# Altium footprint library LEDs.PcbLib: 46 footprints (part 2 of 3)
Each footprint in its own frame and in the unit in brackets; x right, y up, seen from the top. Pads: shape width x height; smd on the part's side, far side on the other; paste and mask are expansions set on the pad; w line width, h text height; cw(c..) or ccw(c..) is an arc to the next point about the centre after c.
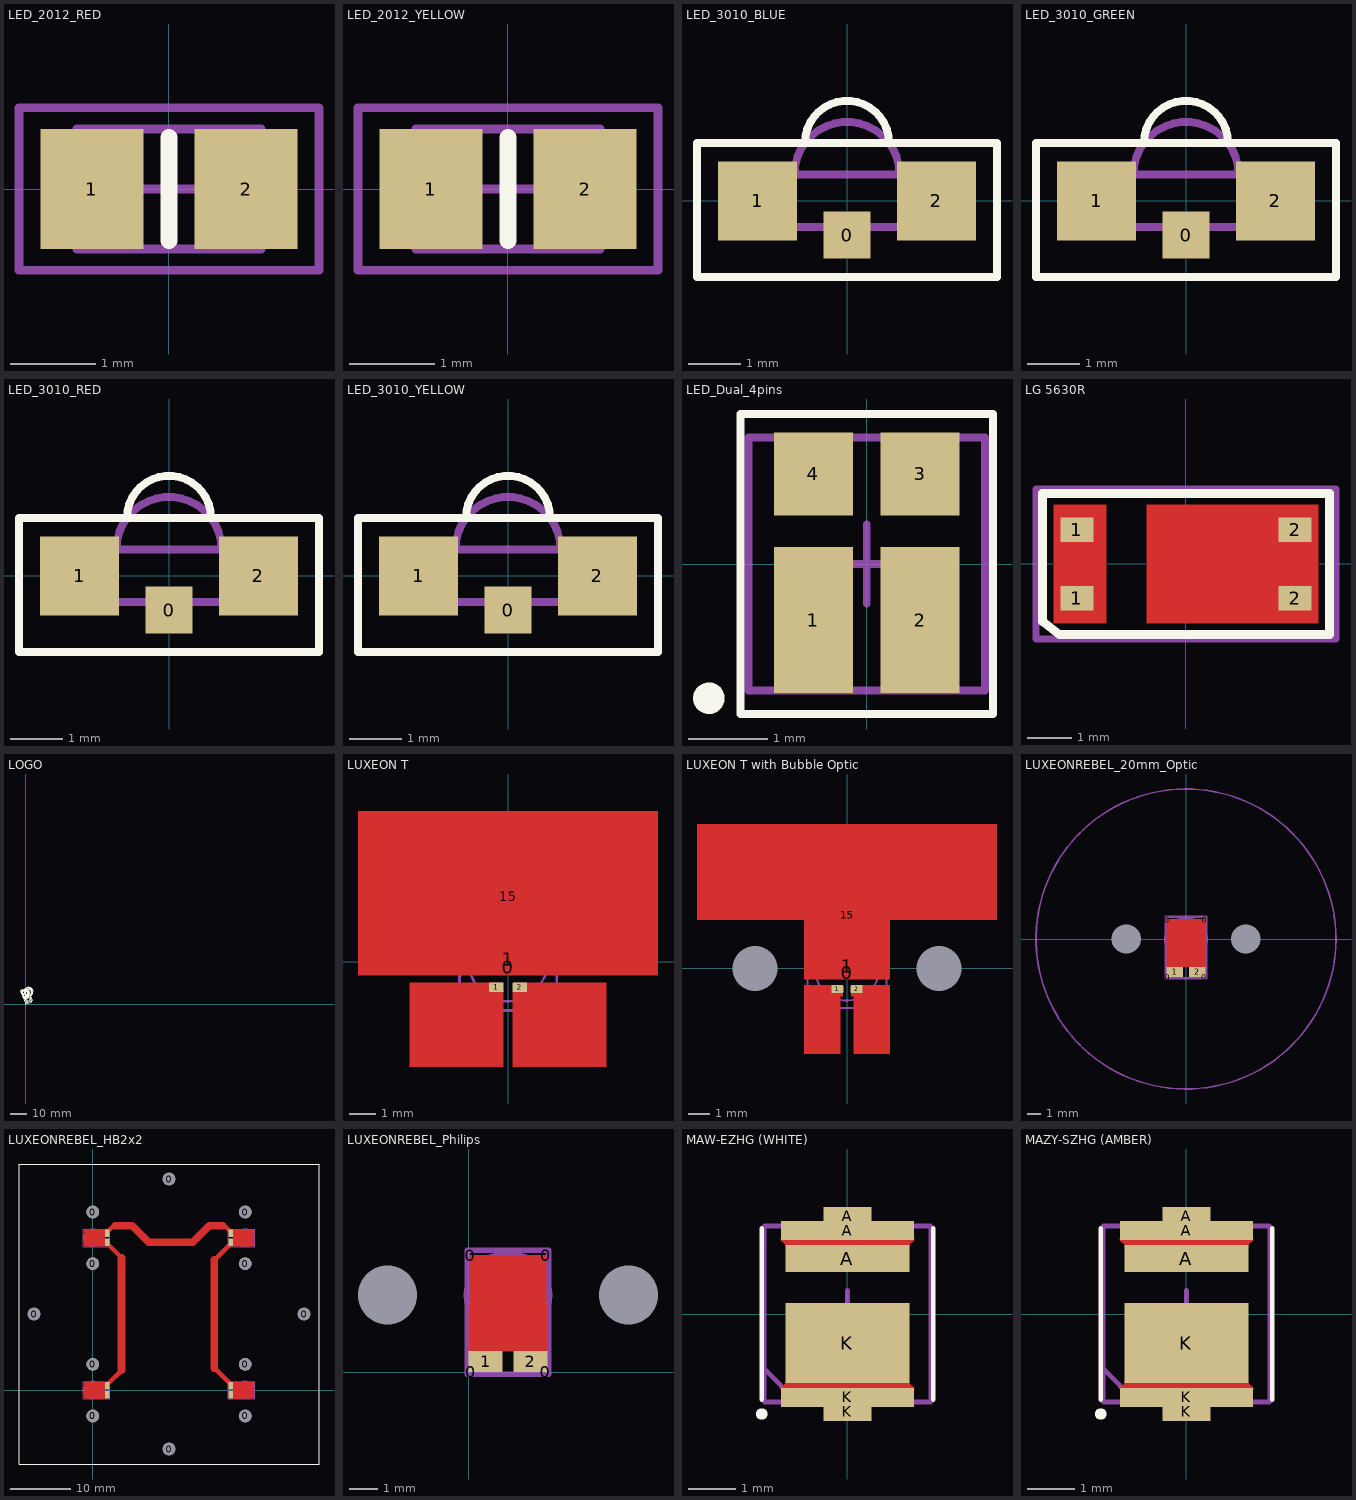
[diagram p1: the footprints below, top view; thin cyan lines are the x and y axes]

## LED_2012_RED [mm]
height 1.1
pads (2):
  rect 1.2x1.4 smd: 1(-0.9,0) 2(0.9,0)
Top Overlay:
  lines w0.2: 0,-0.6 0,0.6
Mechanical 13:
  lines w0.1: -0.85,-0.7 -0.85,0.7 ; 0.85,-0.7 0.85,0.7 ; -1.075,-0.7 1.075,-0.7 1.075,0.7 -1.075,0.7 -1.075,-0.7
Mechanical 15:
  lines w0.1: -0.5,0 0.5,0 ; 0,-0.5 0,0.5 ; -1.75,-0.95 1.75,-0.95 1.75,0.95 -1.75,0.95 -1.75,-0.95
3D body "everlight-17-21-0805LED-red.step": height 1.1, standoff -0.01, extent -1,-0.625 1,0.625

## LED_2012_YELLOW [mm]
height 1.1
pads (2):
  rect 1.2x1.4 smd: 1(-0.9,0) 2(0.9,0)
Top Overlay:
  lines w0.2: 0,-0.6 0,0.6
Mechanical 13:
  lines w0.1: -0.85,-0.7 -0.85,0.7 ; 0.85,-0.7 0.85,0.7 ; -1.075,-0.7 1.075,-0.7 1.075,0.7 -1.075,0.7 -1.075,-0.7
Mechanical 15:
  lines w0.1: -0.5,0 0.5,0 ; 0,-0.5 0,0.5 ; -1.75,-0.95 1.75,-0.95 1.75,0.95 -1.75,0.95 -1.75,-0.95
3D body "everlight-17-21-0805LED-YELLOW.step": height 1.1, standoff -0.01, extent -1,-0.625 1,0.625

## LED_3010_BLUE [mm] "LED SMD Side View 3.0x1.0mm"
height 1
pads (3):
  rect 0.9x0.9 smd: 0(0,-0.65)
  rect 1.5x1.5 smd: 1(-1.7,0) 2(1.7,0)
Top Overlay:
  lines w0.15: -0.8,1.1 cw(c0,1.1) 0.8,1.1 ; -2.85,-1.45 -2.85,1.1 2.85,1.1 2.85,-1.45 -2.85,-1.45
Mechanical 15:
  lines w0.15: -1,0.5 cw(c0,0.5) 1,0.5 ; -1.5,-0.5 -1.5,0.5 1.5,0.5 1.5,-0.5 -1.5,-0.5
3D body "User Library-APA3010GCCK_BLUE.step": height 1, standoff 0, extent -1.5,-0.5 1.5,1.5

## LED_3010_GREEN [mm] "LED SMD Side View 3.0x1.0mm"
height 1
pads (3):
  rect 0.9x0.9 smd: 0(0,-0.65)
  rect 1.5x1.5 smd: 1(-1.7,0) 2(1.7,0)
Top Overlay:
  lines w0.15: -0.8,1.1 cw(c0,1.1) 0.8,1.1 ; -2.85,-1.45 2.85,-1.45 2.85,1.1 -2.85,1.1 -2.85,-1.45
Mechanical 15:
  lines w0.15: -1,0.5 cw(c0,0.5) 1,0.5 ; -1.5,-0.5 1.5,-0.5 1.5,0.5 -1.5,0.5 -1.5,-0.5
3D body "User Library-APA3010GCCK_GREEN.step": height 1, standoff 0, extent -1.5,-0.5 1.5,1.5

## LED_3010_RED [mm] "LED SMD Side View 3.0x1.0mm"
height 1
pads (3):
  rect 0.9x0.9 smd: 0(0,-0.65)
  rect 1.5x1.5 smd: 1(-1.7,0) 2(1.7,0)
Top Overlay:
  lines w0.15: -0.8,1.1 cw(c0,1.1) 0.8,1.1 ; -2.85,-1.45 -2.85,1.1 2.85,1.1 2.85,-1.45 -2.85,-1.45
Mechanical 15:
  lines w0.15: -1,0.5 cw(c0,0.5) 1,0.5 ; -1.5,-0.5 -1.5,0.5 1.5,0.5 1.5,-0.5 -1.5,-0.5
3D body "User Library-APA3010GCCK_RED.step": height 1, standoff 0, extent -1.5,-0.5 1.5,1.5

## LED_3010_YELLOW [mm] "LED SMD Side View 3.0x1.0mm"
height 1
pads (3):
  rect 0.9x0.9 smd: 0(0,-0.65)
  rect 1.5x1.5 smd: 1(-1.7,0) 2(1.7,0)
Top Overlay:
  lines w0.15: -0.8,1.1 cw(c0,1.1) 0.8,1.1 ; -2.85,-1.45 -2.85,1.1 2.85,1.1 2.85,-1.45 -2.85,-1.45
Mechanical 15:
  lines w0.15: -1,0.5 cw(c0,0.5) 1,0.5 ; -1.5,-0.5 -1.5,0.5 1.5,0.5 1.5,-0.5 -1.5,-0.5
3D body "User Library-APA3010GCCK_YELLOW.step": height 1, standoff 0, extent -1.5,-0.5 1.5,1.5

## LED_Dual_4pins [mm]
height 0.65
pads (4):
  rect 1x1.85 smd: 1(-0.675,-0.71) 2(0.675,-0.71)
  rect 1x1.05 smd: 3(0.675,1.14) 4(-0.675,1.14)
Top Overlay:
  circle w0.2: c-2,-1.7 r0.1
  lines w0.1: -1.6,-1.9 -1.6,1.9 1.6,1.9 1.6,-1.9 -1.6,-1.9
Mechanical 15:
  lines w0.1: -0.5,0 0.5,0 ; 0,-0.5 0,0.5 ; -1.5,-1.6 1.5,-1.6 1.5,1.6 -1.5,1.6 -1.5,-1.6
3D body "RF-A2E3C-2W2H-B1.STEP": height 0.66, standoff 0, extent -1.5,-1.6 1.5,1.6

## LG 5630R [mm] "LG middle power LED 5630R"
height 1
pads (4):
  rect 0.75x0.55 smd mask+0.1: 1(-2.475,-0.775) 1(-2.475,0.775) 2(2.475,-0.775) 2(2.475,0.775)
Top Layer:
  region: 3,1.35 -0.9,1.35 -0.9,-1.35 3,-1.35
  region: -1.8,1.35 -3,1.35 -3,-1.35 -1.8,-1.35
Top Overlay:
  lines w0.2: -3.25,-1.3 -2.875,-1.6 3.25,-1.6 3.25,1.6 -3.25,1.6 -3.25,-1.3 ; -2.725,-1.6 -2.7,-1.6 -2.725,-1.6
Top Paste:
  region: 1.5,1.05 -0.65,1.05 -0.65,-1.05 1.5,-1.05
Top Solder:
  region: 1.6,1.15 -0.75,1.15 -0.75,-1.15 1.6,-1.15
Mechanical 7:
  lines w0.15: -3.4,-1.7 3.4,-1.7 3.4,1.7 -3.4,1.7 -3.4,-1.7
Mechanical 15:
  lines w0.1: -0.5,0 0.5,0 ; 0,-0.5 0,0.5
3D body "User Library-LED_5630.step": height 0.86, standoff -0.04, extent -2.728,-1.542 2.872,1.458

## LOGO [mm]
Top Overlay:
  drawing of 3351 lines, arcs and shapes, not listed

## LUXEON T [mm] "LUXEON T LED"
height 2
pads (5):
  rect 1.64x2.04 on Top Solder mask+0: 0(0,-0.2)
  rrect20% 0.55x0.375 smd paste+0 mask-0.55: 1(-0.45,-0.965)
  rrect8% 1.4x1.2 on Top Paste mask+0: 1(0,0.1)
  rrect20% 0.55x0.375 smd mask-0.55: 2(0.45,-0.965)
  round 0.8 on Top Solder mask+0.05: 15(0,2.486)
Top Layer:
  rectangle: -5.722,-0.525 5.715,5.75
  rectangle: 0.175,-4 0.222,-1.116
  rectangle: 0.222,-4 3.75,-0.778
  rectangle: -0.232,-4 -0.175,-1.115
  rectangle: -3.75,-4 -0.232,-0.778
Top Solder:
  rectangle: -1.85,-2 -1.145,-1.85
  region: -2.001,-1.35 -2.001,-2 -1.851,-2 -1.851,-1.35
  region: -1.999,2.006 -1.999,1.356 -1.849,1.356 -1.849,2.006
  region: 1.85,2.006 1.85,1.356 2,1.356 2,2.006
  rectangle: 1.15,1.856 1.855,2.006
  rectangle: -1.855,1.856 -1.15,2.006
  text "-" at -1.25,-3.75 h1
  text "+" at 0.5,-3.75 h1
Mechanical 13:
  circle w0.1: c0,0 r1.5
  lines w0.1: -1.85,-1.85 1.85,-1.85 1.85,1.85 -1.85,1.85 -1.85,-1.85 ; -1.75,-1.75 -1.75,-1.25 -1.5,-1.25 -1.5,-1.5 -1.25,-1.5 -1.25,-1.75 -1.75,-1.75 ; -1.75,1.25 -1.75,1.75 -1.25,1.75 -1.25,1.5 -1.5,1.5 -1.5,1.25 -1.75,1.25 ; 1.25,1.5 1.25,1.75 1.75,1.75 1.75,1.25 1.5,1.25 1.5,1.5 1.25,1.5
3D body: height 1.01, standoff 0, extent 1.251,1.251 1.749,1.749
3D body: height 1.01, standoff 0, extent -1.749,1.251 -1.251,1.749
3D body: height 1.01, standoff 0, extent -1.749,-1.749 -1.251,-1.251
3D body: height 2.25, standoff -0.25, extent -1.237,-1.245 1.25,1.245
3D body: height 1, standoff 0, extent -1.849,-1.849 1.849,1.849

## LUXEON T with Bubble Optic [mm]
height 2
pads (7):
  round 0 / inner round 2.1 / far side round 0 hole 2.1 unplated: 0(-4.3,0) 0(4.3,0)
  rect 1.64x2.04 on Top Solder mask+0: 0(0,-0.2)
  rrect20% 0.55x0.375 smd paste+0 mask-0.55: 1(-0.45,-0.965)
  rrect8% 1.4x1.2 on Top Paste mask+0: 1(0,0.1)
  rrect20% 0.55x0.375 smd mask-0.55: 2(0.45,-0.965)
  round 0.8 on Top Solder mask+0.05: 15(0,2.486)
Top Layer:
  rectangle: -7,2.25 7,6.75
  rectangle: -2,-4 -0.3,-0.778
  rectangle: -0.3,-1.3 -0.175,-1.115
  rectangle: 0.3,-4 2,-0.778
  rectangle: 0.175,-1.3 0.3,-1.116
  rectangle: -2,-0.525 2,5.75
Top Solder:
  rectangle: -1.855,1.856 -1.15,2.006
  rectangle: 1.15,1.856 1.855,2.006
  region: 1.85,2.006 1.85,1.356 2,1.356 2,2.006
  region: -1.999,2.006 -1.999,1.356 -1.849,1.356 -1.849,2.006
  region: -2.001,-1.35 -2.001,-2 -1.851,-2 -1.851,-1.35
  rectangle: -1.85,-2 -1.145,-1.85
  text "+" at 0.5,-3.75 h1
  text "-" at -1.25,-3.75 h1
Keep-Out Layer:
  circle w0.1: c-4.3,0 r0.15
  circle w0.1: c4.3,0 r0.15
Mechanical 13:
  circle w0.1: c0,0 r1.5
  lines w0.1: -1.85,-1.85 -1.85,1.85 1.85,1.85 1.85,-1.85 -1.85,-1.85 ; -1.75,-1.75 -1.25,-1.75 -1.25,-1.5 -1.5,-1.5 -1.5,-1.25 -1.75,-1.25 -1.75,-1.75 ; -1.75,1.25 -1.5,1.25 -1.5,1.5 -1.25,1.5 -1.25,1.75 -1.75,1.75 -1.75,1.25 ; 1.25,1.5 1.5,1.5 1.5,1.25 1.75,1.25 1.75,1.75 1.25,1.75 1.25,1.5
3D body: height 1, standoff 0, extent -1.849,-1.849 1.849,1.849
3D body: height 2.25, standoff -0.25, extent -1.237,-1.245 1.25,1.245
3D body: height 1.01, standoff 0, extent -1.749,-1.749 -1.251,-1.251
3D body: height 1.01, standoff 0, extent -1.749,1.251 -1.251,1.749
3D body: height 1.01, standoff 0, extent 1.251,1.251 1.749,1.749

## LUXEONREBEL_20mm_Optic [mm] "Rebel with 20mm Carclo Optic"
height 12
pads (8):
  round 0 / inner round 2.1 / far side round 0 hole 2.1 unplated: 0(-4.3,0) 0(4.3,0)
  rrect50% 1.25x0.75 on Top Solder rot 135 mask+0.1: 0(-1.35,1.4) 0(1.325,-2.75)
  rrect50% 1.25x0.75 on Top Solder rot 45 mask+0.1: 0(-1.325,-2.75) 0(1.35,1.4)
  rect 1.2x0.75 smd mask+0.1: 1(-0.8,-2.375) 2(0.8,-2.375)
Top Layer:
  region: -1.375,-0.312 1.369,-0.312 1.369,1.416 -1.375,1.416
  pour cut-out: -1.4,-2 -1.4,-0.325 1.4,-0.325 1.4,-2
Top Paste:
  region: -1.35,1.4 -0.45,1.4 -0.45,1 -0.2,0.75 0.2,0.75 0.45,1 0.45,1.4 1.35,1.4 1.35,-0.3 0.45,-0.3 0.45,0.2 0.2,0.45 -0.2,0.45 -0.45,0.2 -0.45,-0.3 -1.35,-0.3
Top Solder:
  region: -1.45,-0.4 1.45,-0.4 1.45,1.5 -1.45,1.5
Mechanical 13:
  circle w0.127: c0,0 r10.8
  circle w0.254: c0,0 r1.464
  lines w0.2: -1.45,-2.825 -1.45,1.6 1.45,1.6 1.45,-2.825 -1.45,-2.825
3D body: height 12, standoff 0, extent -10.799,-10.799 10.799,10.799

## LUXEONREBEL_HB2x2 [mm]
pads (36):
  round 2.1 hole 2.1 unplated: 0(-9.8,12.7) 0(0,-4.3) 0(0,4.3) 0(0,21.1) 0(0,29.7) 0(12.7,-9.8) 0(12.7,35.2) 0(25.4,-4.3) 0(25.4,4.3) 0(25.4,21.1) 0(25.4,29.7) 0(35.2,12.7)
  rrect50% 1.25x0.75 on Top Solder rot 45 mask+0.1: 0(-1.4,-1.35) 0(-1.4,24.05) 0(2.75,1.325) 0(2.75,26.725) 0(22.65,-1.325) 0(22.65,24.075) 0(26.8,1.35) 0(26.8,26.75)
  rrect50% 1.25x0.75 on Top Solder rot 135 mask+0.1: 0(-1.4,1.35) 0(-1.4,26.75) 0(2.75,-1.325) 0(2.75,24.075) 0(22.65,1.325) 0(22.65,26.725) 0(26.8,-1.35) 0(26.8,24.05)
  rect 0.75x1.25 smd mask+0.1: 1(2.375,-0.775) 2(23.025,-0.775) 4(2.375,0.775) 4(2.375,24.625) 4(2.375,26.175) 4(23.025,0.775) 4(23.025,24.625) 4(23.025,26.175)
Top Layer:
  region: 25.088,1.375 25.088,-1.369 26.816,-1.369 26.816,1.375
  region: 25.088,26.775 25.088,24.031 26.816,24.031 26.816,26.775
  region: 0.312,24.025 0.312,26.769 -1.416,26.769 -1.416,24.025
  region: 0.312,-1.375 0.312,1.369 -1.416,1.369 -1.416,-1.375
  pour cut-out: 2,-1.4 0.325,-1.4 0.35,-1.375 0.35,1.4 2,1.4
  pour cut-out: 2,24 0.325,24 0.325,26.8 2,26.8
  pour cut-out: 23.4,24 25.075,24 25.075,26.8 23.4,26.8
  pour cut-out: 23.4,1.4 25.075,1.4 25.075,-1.4 23.4,-1.4
  lines w0.75: 2.438,24.388 4.8,22.025 ; 2.45,1 4.8,3.35 ; 2.45,26.425 3.45,27.425 ; 20.25,3.725 22.887,1.088 ; 20.25,21.675 22.975,24.4 ; 21.95,27.425 22.95,26.425
  lines w1.3: 3.75,27.425 6.575,27.425 9.325,24.675 16.675,24.675 19.425,27.425 21.65,27.425 ; 4.8,3.35 4.8,22.025 ; 20.25,3.725 20.25,21.675
Top Overlay:
  lines w0.2: -12.3,-12.3 37.7,-12.3 37.7,37.7 -12.3,37.7 -12.3,-12.3
Top Paste:
  region: 26.8,1.35 26.8,0.45 26.4,0.45 26.15,0.2 26.15,-0.2 26.4,-0.45 26.8,-0.45 26.8,-1.35 25.1,-1.35 25.1,-0.45 25.6,-0.45 25.85,-0.2 25.85,0.2 25.6,0.45 25.1,0.45 25.1,1.35
  region: 26.8,26.75 26.8,25.85 26.4,25.85 26.15,25.6 26.15,25.2 26.4,24.95 26.8,24.95 26.8,24.05 25.1,24.05 25.1,24.95 25.6,24.95 25.85,25.2 25.85,25.6 25.6,25.85 25.1,25.85 25.1,26.75
  region: -1.4,24.05 -1.4,24.95 -1,24.95 -0.75,25.2 -0.75,25.6 -1,25.85 -1.4,25.85 -1.4,26.75 0.3,26.75 0.3,25.85 -0.2,25.85 -0.45,25.6 -0.45,25.2 -0.2,24.95 0.3,24.95 0.3,24.05
  region: -1.4,-1.35 -1.4,-0.45 -1,-0.45 -0.75,-0.2 -0.75,0.2 -1,0.45 -1.4,0.45 -1.4,1.35 0.3,1.35 0.3,0.45 -0.2,0.45 -0.45,0.2 -0.45,-0.2 -0.2,-0.45 0.3,-0.45 0.3,-1.35
Top Solder:
  region: 25,1.45 25,-1.45 26.9,-1.45 26.9,1.45
  region: 25,26.85 25,23.95 26.9,23.95 26.9,26.85
  region: 0.4,23.95 0.4,26.85 -1.5,26.85 -1.5,23.95
  region: 0.4,-1.45 0.4,1.45 -1.5,1.45 -1.5,-1.45
Mechanical 13:
  circle w0.254: c25.4,0 r1.464
  circle w0.254: c25.4,25.4 r1.464
  circle w0.254: c0,25.4 r1.464
  circle w0.254: c0,0 r1.464
  lines w0.2: -1.6,-1.45 -1.6,1.45 2.825,1.45 2.825,-1.45 -1.6,-1.45 ; -1.6,23.95 -1.6,26.85 2.825,26.85 2.825,23.95 -1.6,23.95 ; 22.575,-1.45 27,-1.45 27,1.45 22.575,1.45 22.575,-1.45 ; 22.575,23.95 27,23.95 27,26.85 22.575,26.85 22.575,23.95

## LUXEONREBEL_Philips [mm]
pads (8):
  round 0 / inner round 2.1 / far side round 0 hole 2.1 unplated: 0(-2.9,2.75) 0(5.7,2.75)
  rrect50% 1.25x0.75 on Top Solder rot 135 mask+0.1: 0(0.05,4.15) 0(2.725,0)
  rrect50% 1.25x0.75 on Top Solder rot 45 mask+0.1: 0(0.075,0) 0(2.75,4.15)
  rect 1.2x0.75 smd mask+0.1: 1(0.6,0.375) 2(2.2,0.375)
Top Layer:
  region: 0.025,2.438 2.769,2.438 2.769,4.166 0.025,4.166
  pour cut-out: 0,0.75 0,2.425 2.8,2.425 2.8,0.75
Top Paste:
  region: 0.05,4.15 0.95,4.15 0.95,3.75 1.2,3.5 1.6,3.5 1.85,3.75 1.85,4.15 2.75,4.15 2.75,2.45 1.85,2.45 1.85,2.95 1.6,3.2 1.2,3.2 0.95,2.95 0.95,2.45 0.05,2.45
Top Solder:
  region: -0.05,2.35 2.85,2.35 2.85,4.25 -0.05,4.25
Mechanical 13:
  circle w0.254: c1.4,2.75 r1.464
  lines w0.2: -0.05,-0.075 -0.05,4.35 2.85,4.35 2.85,-0.075 -0.05,-0.075

## MAW-EZHG (WHITE) [mm]
pads (6):
  rect 2.6x0.57 smd paste-2539.97: A(0,1.165)
  rect 2.8x0.4 smd paste-2539.97: A(0,1.75) K(0,-1.75)
  rect 1x0.4 smd paste-2539.97: A(0,2.05) K(0,-2.05)
  rect 2.6x1.68 smd paste-2539.97: K(0,-0.61)
Top Layer:
  region: 1.3,1.41 1.3,1.45 1.4,1.55 1.4,1.58 -1.4,1.58 -1.4,1.55 -1.3,1.45 -1.3,1.41
  region: -1.3,-1.41 -1.3,-1.45 -1.4,-1.55 -1.4,-1.58 1.4,-1.58 1.4,-1.55 1.3,-1.45 1.3,-1.41
Top Overlay:
  circle w0.2: c-1.8,-2.1 r0.02
  lines w0.1: -1.8,-1.8 -1.8,1.8 ; 1.8,-1.8 1.8,1.8
Top Paste:
  region: 0.35,-1.83 -0.35,-1.83 -0.35,-2.07 0.35,-2.07
  rectangle: -0.35,1.83 0.35,2.06
  region: 1.1,-0.93 -1.1,-0.93 -1.1,-1.87 1.1,-1.87
  rectangle: -1.1,-0.73 1.1,0.14
  rectangle: -1.1,0.99 1.1,1.86
Top Solder:
  region: -1.502,-1.448 -1.394,-1.34 -1.31,-1.34 -1.31,-1.43 -1.35,-1.47 -1.502,-1.47
  region: 1.502,-1.448 1.394,-1.34 1.31,-1.34 1.31,-1.43 1.35,-1.47 1.502,-1.47
  region: -1.5,1.45 -1.4,1.35 -1.17,1.35 -1.17,1.45 -1.26,1.54 -1.5,1.54
  region: 1.5,1.45 1.4,1.35 1.17,1.35 1.17,1.45 1.26,1.54 1.5,1.54
Mechanical 15:
  lines w0.1: -1.75,-1.15 -1.05,-1.85 ; -0.5,0 0.5,0 ; 0,-0.5 0,0.5 ; -1.75,-1.85 1.75,-1.85 1.75,1.85 -1.75,1.85 -1.75,-1.85
3D body "MAW-EZHG_260919.STEP": height 0.8, standoff 0, extent -1.75,-1.85 1.75,1.85

## MAZY-SZHG (AMBER) [mm]
pads (6):
  rect 2.6x0.57 smd paste-2539.97: A(0,1.165)
  rect 2.8x0.4 smd paste-2539.97: A(0,1.75) K(0,-1.75)
  rect 1x0.4 smd paste-2539.97: A(0,2.05) K(0,-2.05)
  rect 2.6x1.68 smd paste-2539.97: K(0,-0.61)
Top Layer:
  region: 1.3,1.41 1.3,1.45 1.4,1.55 1.4,1.58 -1.4,1.58 -1.4,1.55 -1.3,1.45 -1.3,1.41
  region: -1.3,-1.41 -1.3,-1.45 -1.4,-1.55 -1.4,-1.58 1.4,-1.58 1.4,-1.55 1.3,-1.45 1.3,-1.41
Top Overlay:
  circle w0.2: c-1.8,-2.1 r0.02
  lines w0.1: -1.8,-1.8 -1.8,1.8 ; 1.8,-1.8 1.8,1.8
Top Paste:
  region: 0.35,-1.83 -0.35,-1.83 -0.35,-2.07 0.35,-2.07
  rectangle: -0.35,1.83 0.35,2.06
  region: 1.1,-0.93 -1.1,-0.93 -1.1,-1.87 1.1,-1.87
  rectangle: -1.1,-0.73 1.1,0.14
  rectangle: -1.1,0.99 1.1,1.86
Top Solder:
  region: -1.502,-1.448 -1.394,-1.34 -1.31,-1.34 -1.31,-1.43 -1.35,-1.47 -1.502,-1.47
  region: 1.502,-1.448 1.394,-1.34 1.31,-1.34 1.31,-1.43 1.35,-1.47 1.502,-1.47
  region: -1.5,1.45 -1.4,1.35 -1.17,1.35 -1.17,1.45 -1.26,1.54 -1.5,1.54
  region: 1.5,1.45 1.4,1.35 1.17,1.35 1.17,1.45 1.26,1.54 1.5,1.54
Mechanical 15:
  lines w0.1: -1.75,-1.15 -1.05,-1.85 ; -0.5,0 0.5,0 ; 0,-0.5 0,0.5 ; -1.75,-1.85 1.75,-1.85 1.75,1.85 -1.75,1.85 -1.75,-1.85
3D body "MAZY-SZHG.STEP": height 0.8, standoff 0, extent -1.75,-1.85 1.75,1.85